# Altium integrated library pedals-tubes.IntLib: 117 symbols
Pins are listed as number, name and electrical type; pins without a type are passive.

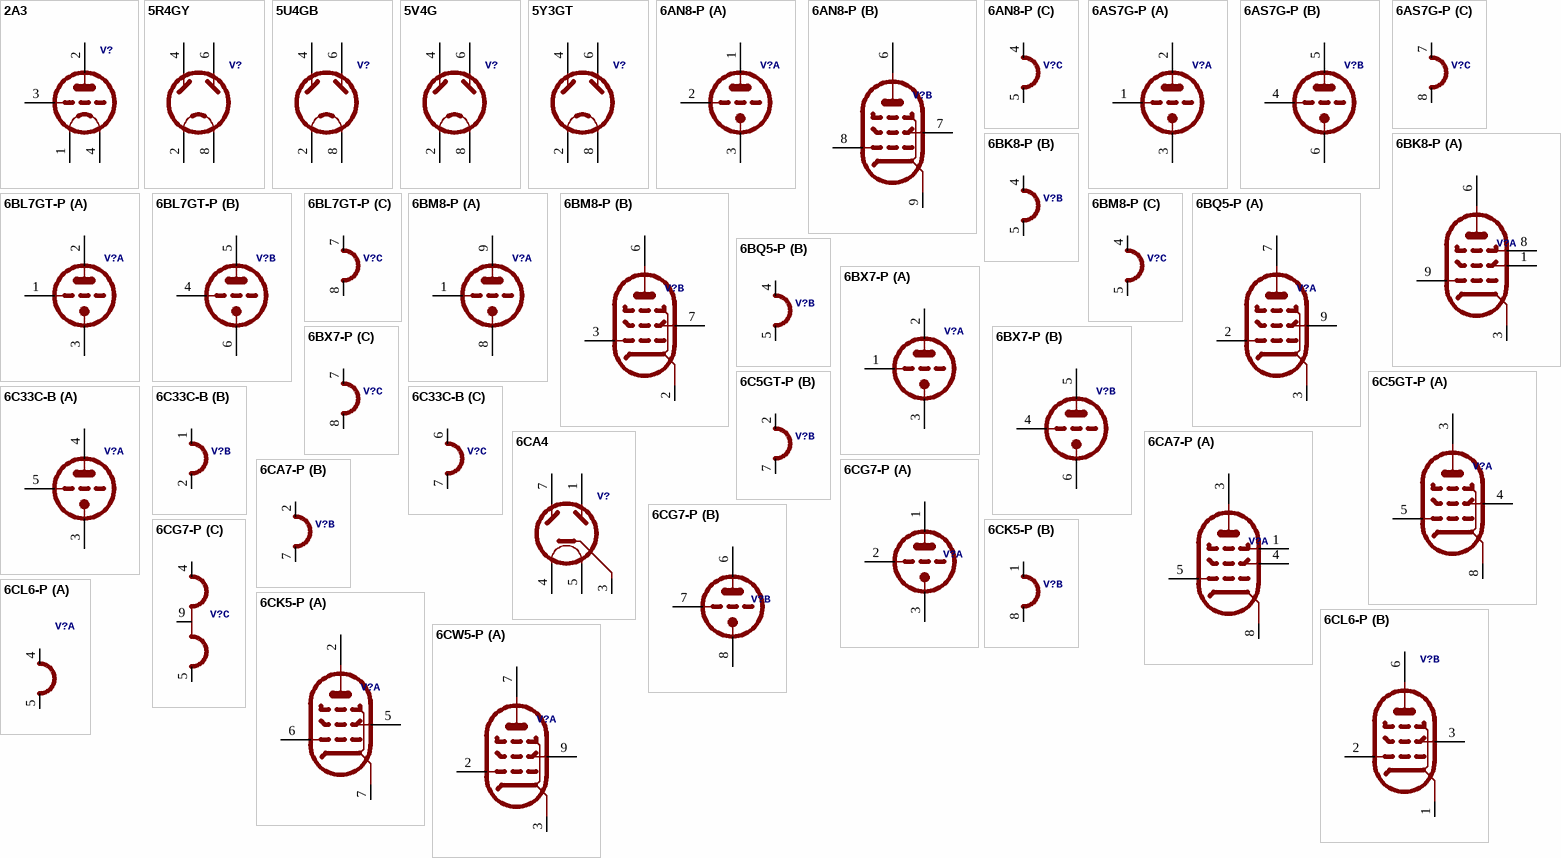
[diagram p0: symbols 2A3 to 6CW5-P]

## 2A3
designator V?
footprint MSTBV4
pins: 1 K/H1, 2 TA, 3 TG, 4 K/H2

## 5R4GY
designator V?
footprint OKTAL
pins: 2 H1, 4 A1, 6 A2, 8 H2

## 5U4GB
designator V?
footprint OKTAL
pins: 2 H1, 4 A1, 6 A2, 8 H2

## 5V4G
designator V?
footprint OKTAL
pins: 2 H1, 4 A1, 6 A2, 8 H2

## 5Y3GT
designator V?
footprint OKTAL
pins: 2 H1, 4 A1, 6 A2, 8 H2

## 6AN8-P
designator V?
footprint NOVAL
part A pins: 1 TA, 2 TG, 3 TK
part B pins: 6 PA, 7 PSG, 8 PG, 9 PK
part C pins: 4 H1, 5 H2

## 6AS7G-P
designator V?
footprint OKTAL
part A pins: 1 TG, 2 TA, 3 TK
part B pins: 4 TG, 5 TA, 6 TK
part C pins: 7 H1, 8 H2

## 6BK8-P
designator V?
footprint NOVAL
part A pins: 1 PSG, 3 PK, 6 PA, 8 PBG, 9 PG
part B pins: 4 H1, 5 H2

## 6BL7GT-P
designator V?
footprint OKTAL
part A pins: 1 TG, 2 TA, 3 TK
part B pins: 4 TG, 5 TA, 6 TK
part C pins: 7 H1, 8 H2

## 6BM8-P
designator V?
footprint NOVAL
part A pins: 1 TG, 8 TK, 9 TA
part B pins: 2 PK, 3 PG, 6 PA, 7 PSG
part C pins: 4 H1, 5 H2

## 6BQ5-P
designator V?
footprint NOVAL
part A pins: 2 PG, 3 PK, 7 PA, 9 PSG
part B pins: 4 H1, 5 H2

## 6BX7-P
designator V?
footprint OKTAL
part A pins: 1 TG, 2 TA, 3 TK
part B pins: 4 TG, 5 TA, 6 TK
part C pins: 7 H1, 8 H2

## 6C5GT-P
designator V?
footprint OKTAL
part A pins: 3 PA, 4 PSG, 5 PG, 8 PK
part B pins: 2 H1, 7 H2

## 6C33C-B
designator V?
footprint MSTBV7
part A pins: 3 TK, 4 TA, 5 TG
part B pins: 1 H1, 2 H2
part C pins: 6 H1, 7 H2

## 6CA4
designator V?
footprint NOVAL
pins: 1 A2, 3 K, 4 H1, 5 H2, 7 A1

## 6CA7-P
designator V?
footprint OKTAL
part A pins: 1 PBG, 3 PA, 4 PSG, 5 PG, 8 PK
part B pins: 2 H1, 7 H2

## 6CG7-P
designator V?
footprint NOVAL
part A pins: 1 TA, 2 TG, 3 TK
part B pins: 6 TA, 7 TG, 8 TK
part C pins: 4 H1, 5 H3, 9 H2

## 6CK5-P
designator V?
footprint OKTAL
part A pins: 2 PA, 5 PSG, 6 PG, 7 PK
part B pins: 1 H1, 8 H2

## 6CL6-P
designator V?
footprint NOVAL
part A pins: 4 H1, 5 H2
part B pins: 1 PK, 2 PG, 3 PSG, 6 PA

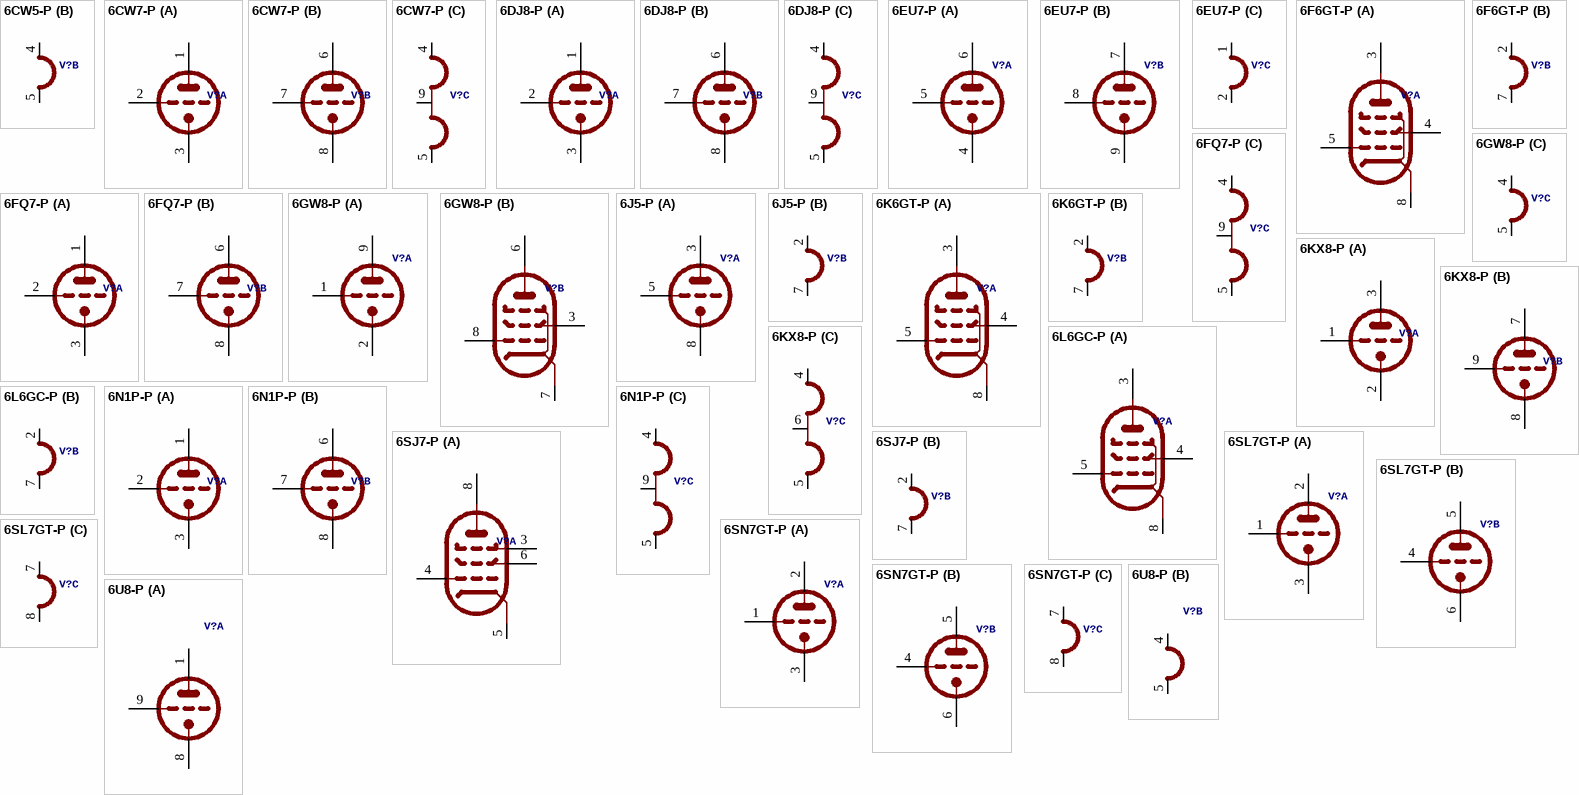
[diagram p1: symbols 6CW5-P to 6U8-P]

## 6CW5-P
designator V?
footprint NOVAL
part A pins: 2 PG, 3 PK, 7 PA, 9 PSG
part B pins: 4 H1, 5 H2

## 6CW7-P
designator V?
footprint NOVAL
part A pins: 1 TA, 2 TG, 3 TK
part B pins: 6 TA, 7 TG, 8 TK
part C pins: 4 H1, 5 H3, 9 H2

## 6DJ8-P
designator V?
footprint NOVAL
part A pins: 1 TA, 2 TG, 3 TK
part B pins: 6 TA, 7 TG, 8 TK
part C pins: 4 H1, 5 H3, 9 H2

## 6EU7-P
designator V?
footprint NOVAL
part A pins: 4 TK, 5 TG, 6 TA
part B pins: 7 TA, 8 TG, 9 TK
part C pins: 1 H1, 2 H2

## 6F6GT-P
designator V?
footprint OKTAL
part A pins: 3 PA, 4 PSG, 5 PG, 8 PK
part B pins: 2 H1, 7 H2

## 6FQ7-P
designator V?
footprint NOVAL
part A pins: 1 TA, 2 TG, 3 TK
part B pins: 6 TA, 7 TG, 8 TK
part C pins: 4 H1, 5 H3, 9 H2

## 6GW8-P
designator V?
footprint NOVAL
part A pins: 1 TG, 2 TK, 9 TA
part B pins: 3 PSG, 6 PA, 7 PK, 8 PG
part C pins: 4 H1, 5 H2

## 6J5-P
designator V?
footprint OKTAL
part A pins: 3 TA, 5 TG, 8 TK
part B pins: 2 H1, 7 H2

## 6K6GT-P
designator V?
footprint OKTAL
part A pins: 3 PA, 4 PSG, 5 PG, 8 PK
part B pins: 2 H1, 7 H2

## 6KX8-P
designator V?
footprint NOVAL
part A pins: 1 TG, 2 TK, 3 TA
part B pins: 7 TA, 8 TK, 9 TG
part C pins: 4 H1, 5 H3, 6 H2

## 6L6GC-P
designator V?
footprint OKTAL
part A pins: 3 PA, 4 PSG, 5 PG, 8 PK
part B pins: 2 H1, 7 H2

## 6N1P-P
designator V?
footprint NOVAL
part A pins: 1 TA, 2 TG, 3 TK
part B pins: 6 TA, 7 TG, 8 TK
part C pins: 4 H1, 5 H3, 9 H2

## 6SJ7-P
designator V?
footprint OKTAL
part A pins: 3 PBG, 4 PG, 5 PK, 6 PSG, 8 PA
part B pins: 2 H1, 7 H2

## 6SL7GT-P
designator V?
footprint OKTAL
part A pins: 1 TG, 2 TA, 3 TK
part B pins: 4 TG, 5 TA, 6 TK
part C pins: 7 H1, 8 H2

## 6SN7GT-P
designator V?
footprint OKTAL
part A pins: 1 TG, 2 TA, 3 TK
part B pins: 4 TG, 5 TA, 6 TK
part C pins: 7 H1, 8 H2

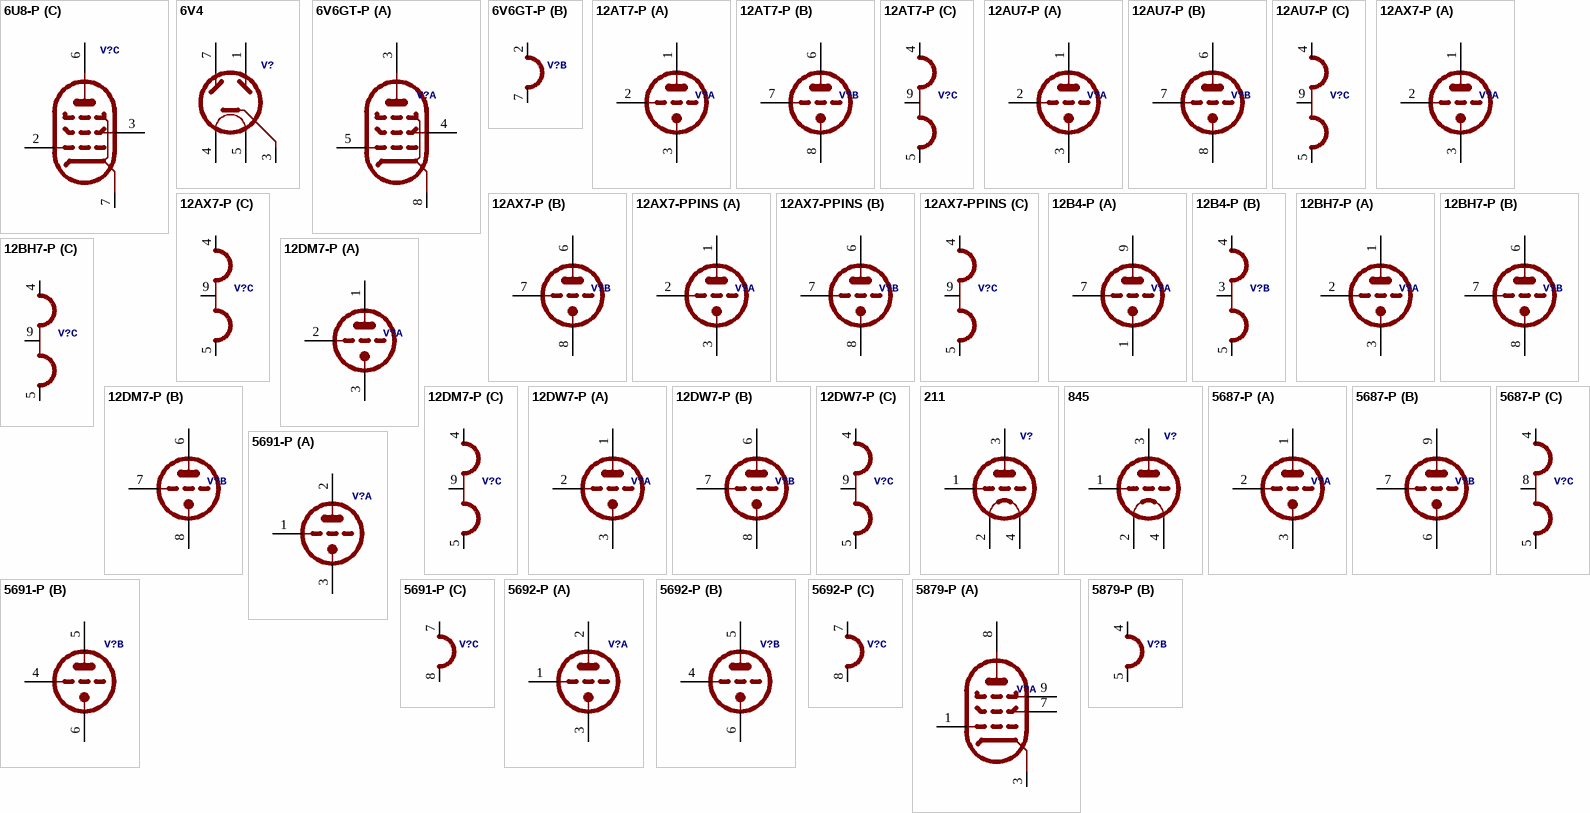
[diagram p2: symbols 6U8-P to 5879-P]

## 6U8-P
designator V?
footprint NOVAL
part A pins: 1 TA, 8 TK, 9 TG
part B pins: 4 H1, 5 H2
part C pins: 2 PG, 3 PSG, 6 PA, 7 PK

## 6V4
designator V?
footprint NOVAL
pins: 1 A2, 3 K, 4 H1, 5 H2, 7 A1

## 6V6GT-P
designator V?
footprint OKTAL
part A pins: 3 PA, 4 PSG, 5 PG, 8 PK
part B pins: 2 H1, 7 H2

## 12AT7-P
designator V?
footprint NOVAL
part A pins: 1 TA, 2 TG, 3 TK
part B pins: 6 TA, 7 TG, 8 TK
part C pins: 4 H1, 5 H3, 9 H2

## 12AU7-P
designator V?
footprint NOVAL
part A pins: 1 TA, 2 TG, 3 TK
part B pins: 6 TA, 7 TG, 8 TK
part C pins: 4 H1, 5 H3, 9 H2

## 12AX7-P
designator V?
footprint NOVAL
part A pins: 1 TA, 2 TG, 3 TK
part B pins: 6 TA, 7 TG, 8 TK
part C pins: 4 H1, 5 H3, 9 H2

## 12AX7-PPINS
designator V?
footprint NOVAL_PINS
part A pins: 1 TA, 2 TG, 3 TK
part B pins: 6 TA, 7 TG, 8 TK
part C pins: 4 H1, 5 H3, 9 H2

## 12B4-P
designator V?
footprint NOVAL
part A pins: 1 TK, 7 TG, 9 TA
part B pins: 3 H2, 4 H1, 5 H3

## 12BH7-P
designator V?
footprint NOVAL
part A pins: 1 TA, 2 TG, 3 TK
part B pins: 6 TA, 7 TG, 8 TK
part C pins: 4 H1, 5 H3, 9 H2

## 12DM7-P
designator V?
footprint NOVAL
part A pins: 1 TA, 2 TG, 3 TK
part B pins: 6 TA, 7 TG, 8 TK
part C pins: 4 H1, 5 H3, 9 H2

## 12DW7-P
designator V?
footprint NOVAL
part A pins: 1 TA, 2 TG, 3 TK
part B pins: 6 TA, 7 TG, 8 TK
part C pins: 4 H1, 5 H3, 9 H2

## 211
designator V?
footprint MSTBV4
pins: 1 TG, 2 K/H1, 3 TA, 4 K/H2

## 845
designator V?
footprint MSTBV4
pins: 1 TG, 2 K/H1, 3 TA, 4 K/H2

## 5687-P
designator V?
footprint NOVAL
part A pins: 1 TA, 2 TG, 3 TK
part B pins: 6 TK, 7 TG, 9 TA
part C pins: 4 H1, 5 H3, 8 H2

## 5691-P
designator V?
footprint OKTAL
part A pins: 1 TG, 2 TA, 3 TK
part B pins: 4 TG, 5 TA, 6 TK
part C pins: 7 H1, 8 H2

## 5692-P
designator V?
footprint OKTAL
part A pins: 1 TG, 2 TA, 3 TK
part B pins: 4 TG, 5 TA, 6 TK
part C pins: 7 H1, 8 H2

## 5879-P
designator V?
footprint NOVAL
part A pins: 1 PG, 3 PK, 7 PSG, 8 PA, 9 PBG
part B pins: 4 H1, 5 H2

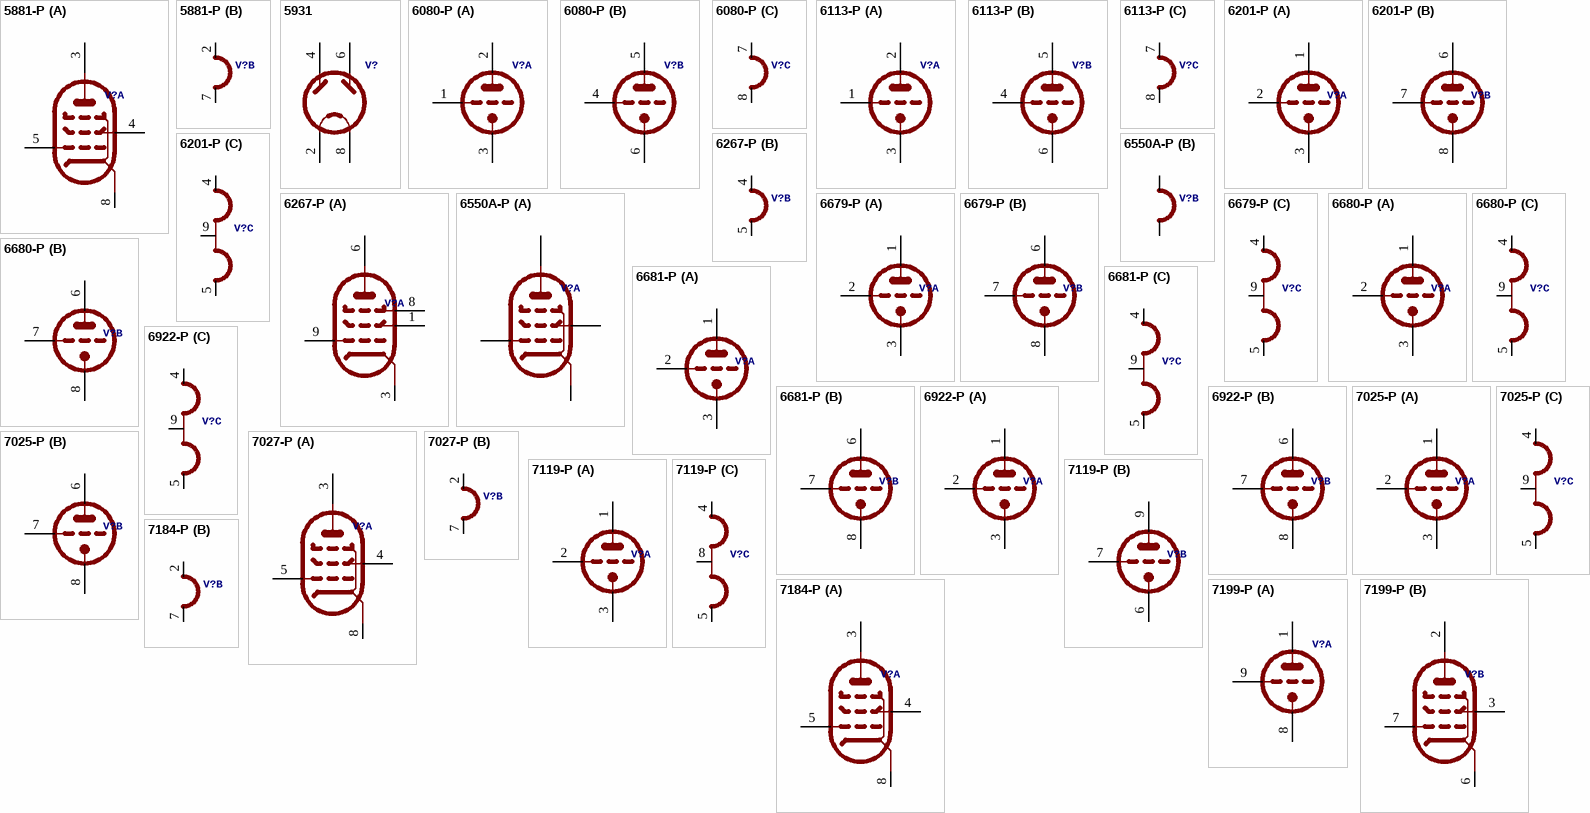
[diagram p3: symbols 5881-P to 7199-P]

## 5881-P
designator V?
footprint OKTAL
part A pins: 3 PA, 4 PSG, 5 PG, 8 PK
part B pins: 2 H1, 7 H2

## 5931
designator V?
footprint OKTAL
pins: 2 H1, 4 A1, 6 A2, 8 H2

## 6080-P
designator V?
footprint OKTAL
part A pins: 1 TG, 2 TA, 3 TK
part B pins: 4 TG, 5 TA, 6 TK
part C pins: 7 H1, 8 H2

## 6113-P
designator V?
footprint OKTAL
part A pins: 1 TG, 2 TA, 3 TK
part B pins: 4 TG, 5 TA, 6 TK
part C pins: 7 H1, 8 H2

## 6201-P
designator V?
footprint NOVAL
part A pins: 1 TA, 2 TG, 3 TK
part B pins: 6 TA, 7 TG, 8 TK
part C pins: 4 H1, 5 H3, 9 H2

## 6267-P
designator V?
footprint NOVAL
part A pins: 1 PSG, 3 PK, 6 PA, 8 PBG, 9 PG
part B pins: 4 H1, 5 H2

## 6550A-P
designator V?
footprint OKTAL
part A pins: ?1 PSG, ?2 PG, ?3 PA, ?4 PK
part B pins: ? H1, ? H2

## 6679-P
designator V?
footprint NOVAL
part A pins: 1 TA, 2 TG, 3 TK
part B pins: 6 TA, 7 TG, 8 TK
part C pins: 4 H1, 5 H3, 9 H2

## 6680-P
designator V?
footprint NOVAL
part A pins: 1 TA, 2 TG, 3 TK
part B pins: 6 TA, 7 TG, 8 TK
part C pins: 4 H1, 5 H3, 9 H2

## 6681-P
designator V?
footprint NOVAL
part A pins: 1 TA, 2 TG, 3 TK
part B pins: 6 TA, 7 TG, 8 TK
part C pins: 4 H1, 5 H3, 9 H2

## 6922-P
designator V?
footprint NOVAL
part A pins: 1 TA, 2 TG, 3 TK
part B pins: 6 TA, 7 TG, 8 TK
part C pins: 4 H1, 5 H3, 9 H2

## 7025-P
designator V?
footprint NOVAL
part A pins: 1 TA, 2 TG, 3 TK
part B pins: 6 TA, 7 TG, 8 TK
part C pins: 4 H1, 5 H3, 9 H2

## 7027-P
designator V?
footprint OKTAL
part A pins: 3 PA, 4 PSG, 5 PG, 8 PK
part B pins: 2 H1, 7 H2

## 7119-P
designator V?
footprint NOVAL
part A pins: 1 TA, 2 TG, 3 TK
part B pins: 6 TK, 7 TG, 9 TA
part C pins: 4 H1, 5 H3, 8 H2

## 7184-P
designator V?
footprint OKTAL
part A pins: 3 PA, 4 PSG, 5 PG, 8 PK
part B pins: 2 H1, 7 H2

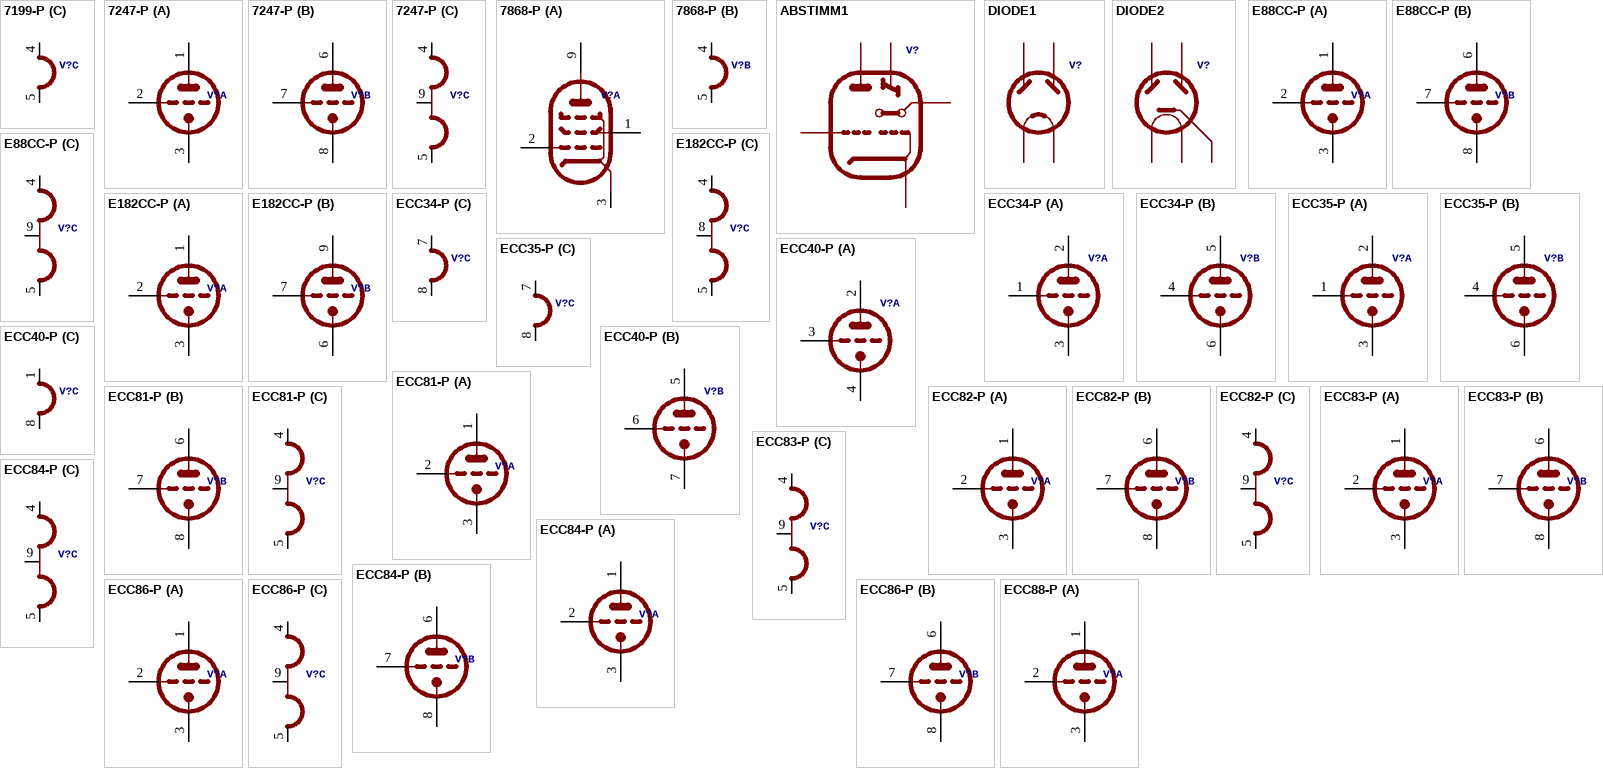
[diagram p4: symbols 7199-P to ECC88-P]

## 7199-P
designator V?
footprint NOVAL
part A pins: 1 TA, 8 TK, 9 TG
part B pins: 2 PA, 3 PSG, 6 PK, 7 PG
part C pins: 4 H1, 5 H2

## 7247-P
designator V?
footprint NOVAL
part A pins: 1 TA, 2 TG, 3 TK
part B pins: 6 TA, 7 TG, 8 TK
part C pins: 4 H1, 5 H3, 9 H2

## 7868-P
designator V?
footprint NOVAL
part A pins: 1 PSG, 2 PG, 3 PK, 9 PA
part B pins: 4 H1, 5 H2

## ABSTIMM1
designator V?

## DIODE1
designator V?

## DIODE2
designator V?

## E88CC-P
designator V?
footprint NOVAL
part A pins: 1 TA, 2 TG, 3 TK
part B pins: 6 TA, 7 TG, 8 TK
part C pins: 4 H1, 5 H3, 9 H2

## E182CC-P
designator V?
footprint NOVAL
part A pins: 1 TA, 2 TG, 3 TK
part B pins: 6 TK, 7 TG, 9 TA
part C pins: 4 H1, 5 H3, 8 H2

## ECC34-P
designator V?
footprint OKTAL
part A pins: 1 TG, 2 TA, 3 TK
part B pins: 4 TG, 5 TA, 6 TK
part C pins: 7 H1, 8 H2

## ECC35-P
designator V?
footprint OKTAL
part A pins: 1 TG, 2 TA, 3 TK
part B pins: 4 TG, 5 TA, 6 TK
part C pins: 7 H1, 8 H2

## ECC40-P
designator V?
footprint NOVAL
part A pins: 2 TA, 3 TG, 4 TK
part B pins: 5 TA, 6 TG, 7 TK
part C pins: 1 H1, 8 H2

## ECC81-P
designator V?
footprint NOVAL
part A pins: 1 TA, 2 TG, 3 TK
part B pins: 6 TA, 7 TG, 8 TK
part C pins: 4 H1, 5 H3, 9 H2

## ECC82-P
designator V?
footprint NOVAL
part A pins: 1 TA, 2 TG, 3 TK
part B pins: 6 TA, 7 TG, 8 TK
part C pins: 4 H1, 5 H3, 9 H2

## ECC83-P
designator V?
footprint NOVAL
part A pins: 1 TA, 2 TG, 3 TK
part B pins: 6 TA, 7 TG, 8 TK
part C pins: 4 H1, 5 H3, 9 H2

## ECC84-P
designator V?
footprint NOVAL
part A pins: 1 TA, 2 TG, 3 TK
part B pins: 6 TA, 7 TG, 8 TK
part C pins: 4 H1, 5 H3, 9 H2

## ECC86-P
designator V?
footprint NOVAL
part A pins: 1 TA, 2 TG, 3 TK
part B pins: 6 TA, 7 TG, 8 TK
part C pins: 4 H1, 5 H3, 9 H2

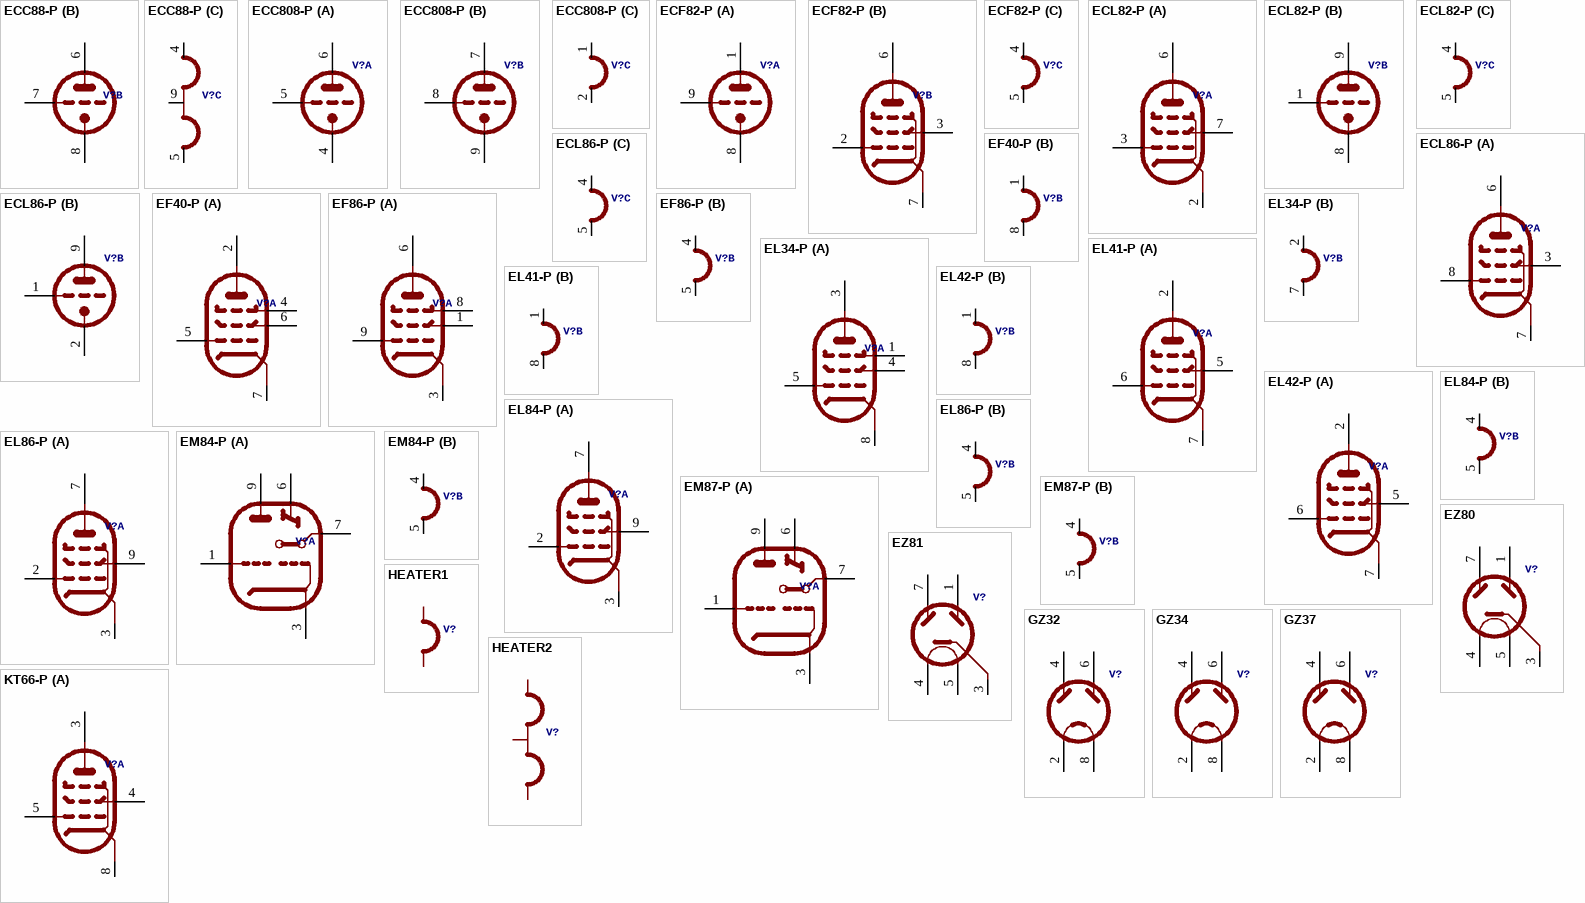
[diagram p5: symbols ECC88-P to KT66-P]

## ECC88-P
designator V?
footprint NOVAL
part A pins: 1 TA, 2 TG, 3 TK
part B pins: 6 TA, 7 TG, 8 TK
part C pins: 4 H1, 5 H3, 9 H2

## ECC808-P
designator V?
footprint NOVAL
part A pins: 4 TK, 5 TG, 6 TA
part B pins: 7 TA, 8 TG, 9 TK
part C pins: 1 H1, 2 H2

## ECF82-P
designator V?
footprint NOVAL
part A pins: 1 TA, 8 TK, 9 TG
part B pins: 2 PG, 3 PSG, 6 PA, 7 PK
part C pins: 4 H1, 5 H2

## ECL82-P
designator V?
footprint NOVAL
part A pins: 2 PK, 3 PG, 6 PA, 7 PSG
part B pins: 1 TG, 8 TK, 9 TA
part C pins: 4 H1, 5 H2

## ECL86-P
designator V?
footprint NOVAL
part A pins: 3 PSG, 6 PA, 7 PK, 8 PG
part B pins: 1 TG, 2 TK, 9 TA
part C pins: 4 H1, 5 H2

## EF40-P
designator V?
footprint OKTAL
part A pins: 2 PA, 4 PBG, 5 PG, 6 PSG, 7 PK
part B pins: 1 H1, 8 H2

## EF86-P
designator V?
footprint NOVAL
part A pins: 1 PSG, 3 PK, 6 PA, 8 PBG, 9 PG
part B pins: 4 H1, 5 H2

## EL34-P
designator V?
footprint OKTAL
part A pins: 1 PBG, 3 PA, 4 PSG, 5 PG, 8 PK
part B pins: 2 H1, 7 H2

## EL41-P
designator V?
footprint OKTAL
part A pins: 2 PA, 5 PSG, 6 PG, 7 PK
part B pins: 1 H1, 8 H2

## EL42-P
designator V?
footprint OKTAL
part A pins: 2 PA, 5 PSG, 6 PG, 7 PK
part B pins: 1 H1, 8 H2

## EL84-P
designator V?
footprint NOVAL
part A pins: 2 PG, 3 PK, 7 PA, 9 PSG
part B pins: 4 H1, 5 H2

## EL86-P
designator V?
footprint NOVAL
part A pins: 2 PG, 3 PK, 7 PA, 9 PSG
part B pins: 4 H1, 5 H2

## EM84-P
designator V?
footprint NOVAL
part A pins: 1 GT, 3 K_G1, 6 L, 7 ST, 9 A
part B pins: 4 H1, 5 H2

## EM87-P
designator V?
footprint NOVAL
part A pins: 1 GT, 3 K_G1, 6 L, 7 ST, 9 A
part B pins: 4 H1, 5 H2

## EZ80
designator V?
footprint NOVAL
pins: 1 A2, 3 K, 4 H1, 5 H2, 7 A1

## EZ81
designator V?
footprint NOVAL
pins: 1 A2, 3 K, 4 H1, 5 H2, 7 A1

## GZ32
designator V?
footprint OKTAL
pins: 2 H1, 4 A1, 6 A2, 8 H2

## GZ34
designator V?
footprint OKTAL
pins: 2 H1, 4 A1, 6 A2, 8 H2

## GZ37
designator V?
footprint OKTAL
pins: 2 H1, 4 A1, 6 A2, 8 H2

## HEATER1
designator V?

## HEATER2
designator V?

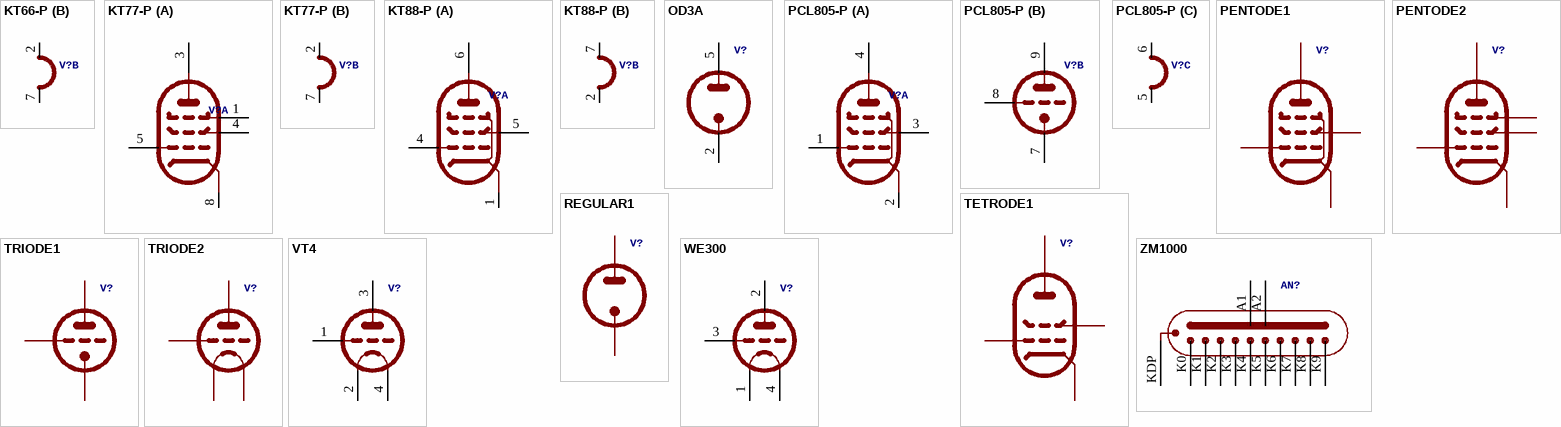
[diagram p6: symbols KT66-P to ZM1000]

## KT66-P
designator V?
footprint OKTAL
part A pins: 3 PA, 4 PSG, 5 PG, 8 PK
part B pins: 2 H1, 7 H2

## KT77-P
designator V?
footprint OKTAL
part A pins: 1 PBG, 3 PA, 4 PSG, 5 PG, 8 PK
part B pins: 2 H1, 7 H2

## KT88-P
designator V?
footprint OKTAL
part A pins: 1 PK, 4 PG, 5 PSG, 6 PA
part B pins: 2 H2, 7 H1

## OD3A
designator V?
footprint OKTAL
pins: 2 K, 5 A

## PCL805-P
designator V?
footprint NOVAL
part A pins: 1 PG, 2 PK, 3 PSG, 4 PA
part B pins: 7 TK, 8 TG, 9 TA
part C pins: 5 H2, 6 H1

## PENTODE1
designator V?

## PENTODE2
designator V?

## REGULAR1
designator V?

## TETRODE1
designator V?

## TRIODE1
designator V?

## TRIODE2
designator V?

## VT4
designator V?
footprint MSTBV4
pins: 1 TG, 2 K/H1, 3 TA, 4 K/H2

## WE300
designator V?
footprint MSTBV4
pins: 1 K/H1, 2 TA, 3 TG, 4 K/H2

## ZM1000
designator AN?
footprint ZM1000
pins: A1, A2, K0 0, K1 1, K2 2, K3 3, K4 4, K5 5, K6 6, K7 7, K8 8, K9 9, KDP DPL